# EAGLE library part ADXL343BCCZ-RL7 (library GlacTracker)
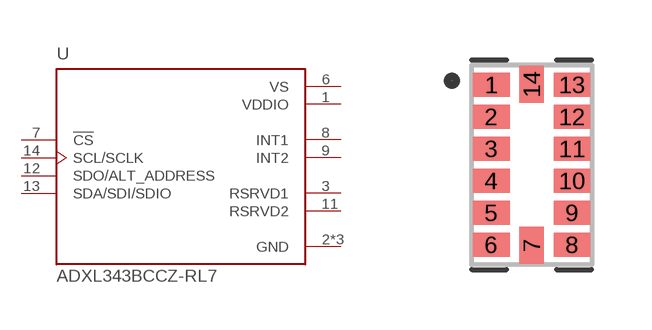
[diagram p9: symbol with the pads of PQFN80P300X500X100-14N; footprint PQFN80P300X500X100-14N]

Designator prefix -

## ADXL343BCCZ-RL7  [PQFN80P300X500X100-14N]
1  VDDIO  pwr
2  GND  pwr
3  RSRVD1  pas
4  GND  pwr
5  GND  pwr
6  VS  pwr
7  !CS  in
8  INT1  out
9  INT2  out
11  RSRVD2  pas
12  SDO/ALT_ADDRESS
13  SDA/SDI/SDIO
14  SCL/SCLK  in

## Footprint PQFN80P300X500X100-14N (pad centres in mm)
smd 0.92 x 0.61: 1 -1.01,2; 2 -1.01,1.2; 3 -1.01,0.4; 4 -1.01,-0.4; 5 -1.01,-1.2; 6 -1.01,-2; 8 1.01,-2; 9 1.01,-1.2; 10 1.01,-0.4; 11 1.01,0.4; 12 1.01,1.2; 13 1.01,2
smd 0.61 x 0.92: 7 0,-2.01; 14 0,2.01